# Altium schematic symbol library MC0805B105K160CT.SchLib: 1 symbol
Pins are listed as number, name and electrical type; pins without a type are passive.

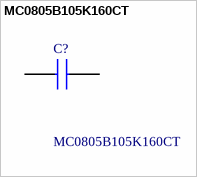
[diagram p0: symbol MC0805B105K160CT]

## MC0805B105K160CT
designator C?
MULTICOMP - MC0805B105K160CT - CAP, MLCC, X7R, 1UF, 16V, 0805, REEL; Manufacturer_Name: Multicomp Pro; Geometry.Height: 1.35mm; Farnell Part Number: *; Farnell Price/Stock: *; Manufacturer_Part_Number: MC0805B105K160CT; Datasheet Link: *
footprint CAPC2012X135N
pins: 1, 2